# EAGLE library part SB_1223_DC/DC (library e-sps)
SB 1223 2 x 24 V DC 2 x 24 V DC Source: s71200_easy_book_de-DE_de-DE.pdf
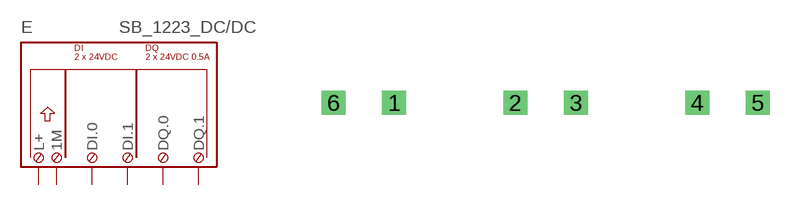
[diagram p4: symbol with the pads of SB_1223_DC/DC; footprint SB_1223_DC/DC]

Designator prefix E

## SB_1223_DC/DC  [SB_1223_DC/DC]
1  1M  pas
2  DI.0  pas
3  DI.1  pas
4  DQ.0  pas
5  DQ.1  pas
6  L+  pas

## Footprint SB_1223_DC/DC (pad centres in mm)
Dummy
drill 0.5 pad 1 square: 1 -5.08,-20.32; 2 0,-20.32; 3 2.54,-20.32; 4 7.62,-20.32; 5 10.16,-20.32; 6 -7.62,-20.32